# Altium footprint library MYRLP330015F21RE.PcbLib: 1 footprints
Each footprint in its own frame and in the unit in brackets; x right, y up, seen from the top. Pads: shape width x height; smd on the part's side, far side on the other; paste and mask are expansions set on the pad; w line width, h text height; cw(c..) or ccw(c..) is an arc to the next point about the centre after c.
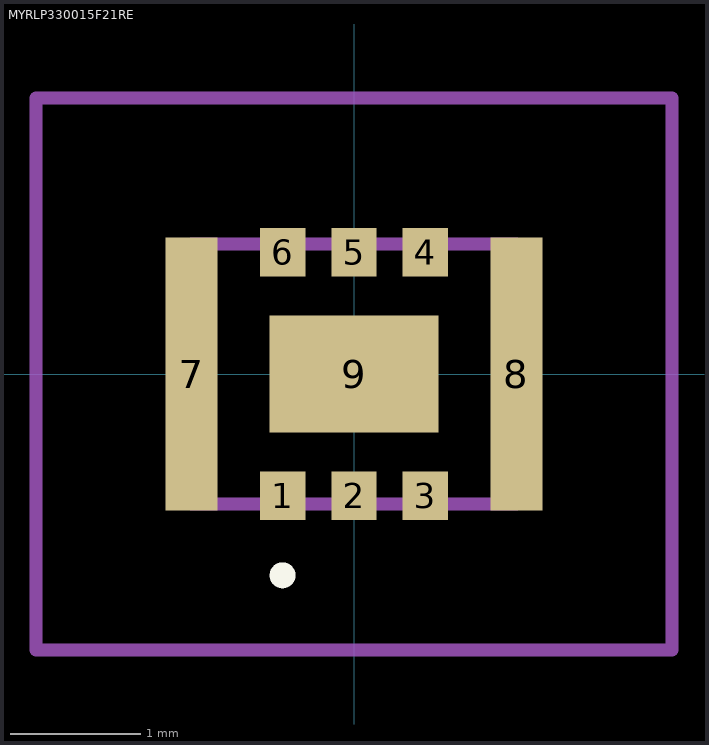
[diagram p0: the footprint, top view; thin cyan lines are the x and y axes]

## MYRLP330015F21RE [mm]
pads (9):
  rect 0.35x0.375 smd: 1(-0.55,-0.938) 2(0,-0.938) 3(0.55,-0.938) 4(0.55,0.938) 5(0,0.938) 6(-0.55,0.938)
  rect 0.4x2.1 smd: 7(-1.25,0) 8(1.25,0)
  rect 1.3x0.9 smd: 9(0,0)
Top Overlay:
  lines w0.1: -0.55,-1.6 -0.55,-1.6 ; -0.55,-1.6 ccw(c-0.55,-1.55) -0.55,-1.5 ; -0.55,-1.6 cw(c-0.55,-1.55) -0.55,-1.5 ; -0.55,-1.5 -0.55,-1.5
Mechanical 15:
  lines w0.1: -1.25,-1 1.25,-1 1.25,1 -1.25,1 -1.25,-1
Mechanical 20:
  lines w0.1: -2.45,-2.125 2.45,-2.125 2.45,2.125 -2.45,2.125 -2.45,-2.125